# Altium footprint library PcbLib2.PcbLib: 19 footprints (part 1 of 2)
Each footprint in its own frame and in the unit in brackets; x right, y up, seen from the top. Pads: shape width x height; smd on the part's side, far side on the other; paste and mask are expansions set on the pad; w line width, h text height; cw(c..) or ccw(c..) is an arc to the next point about the centre after c.
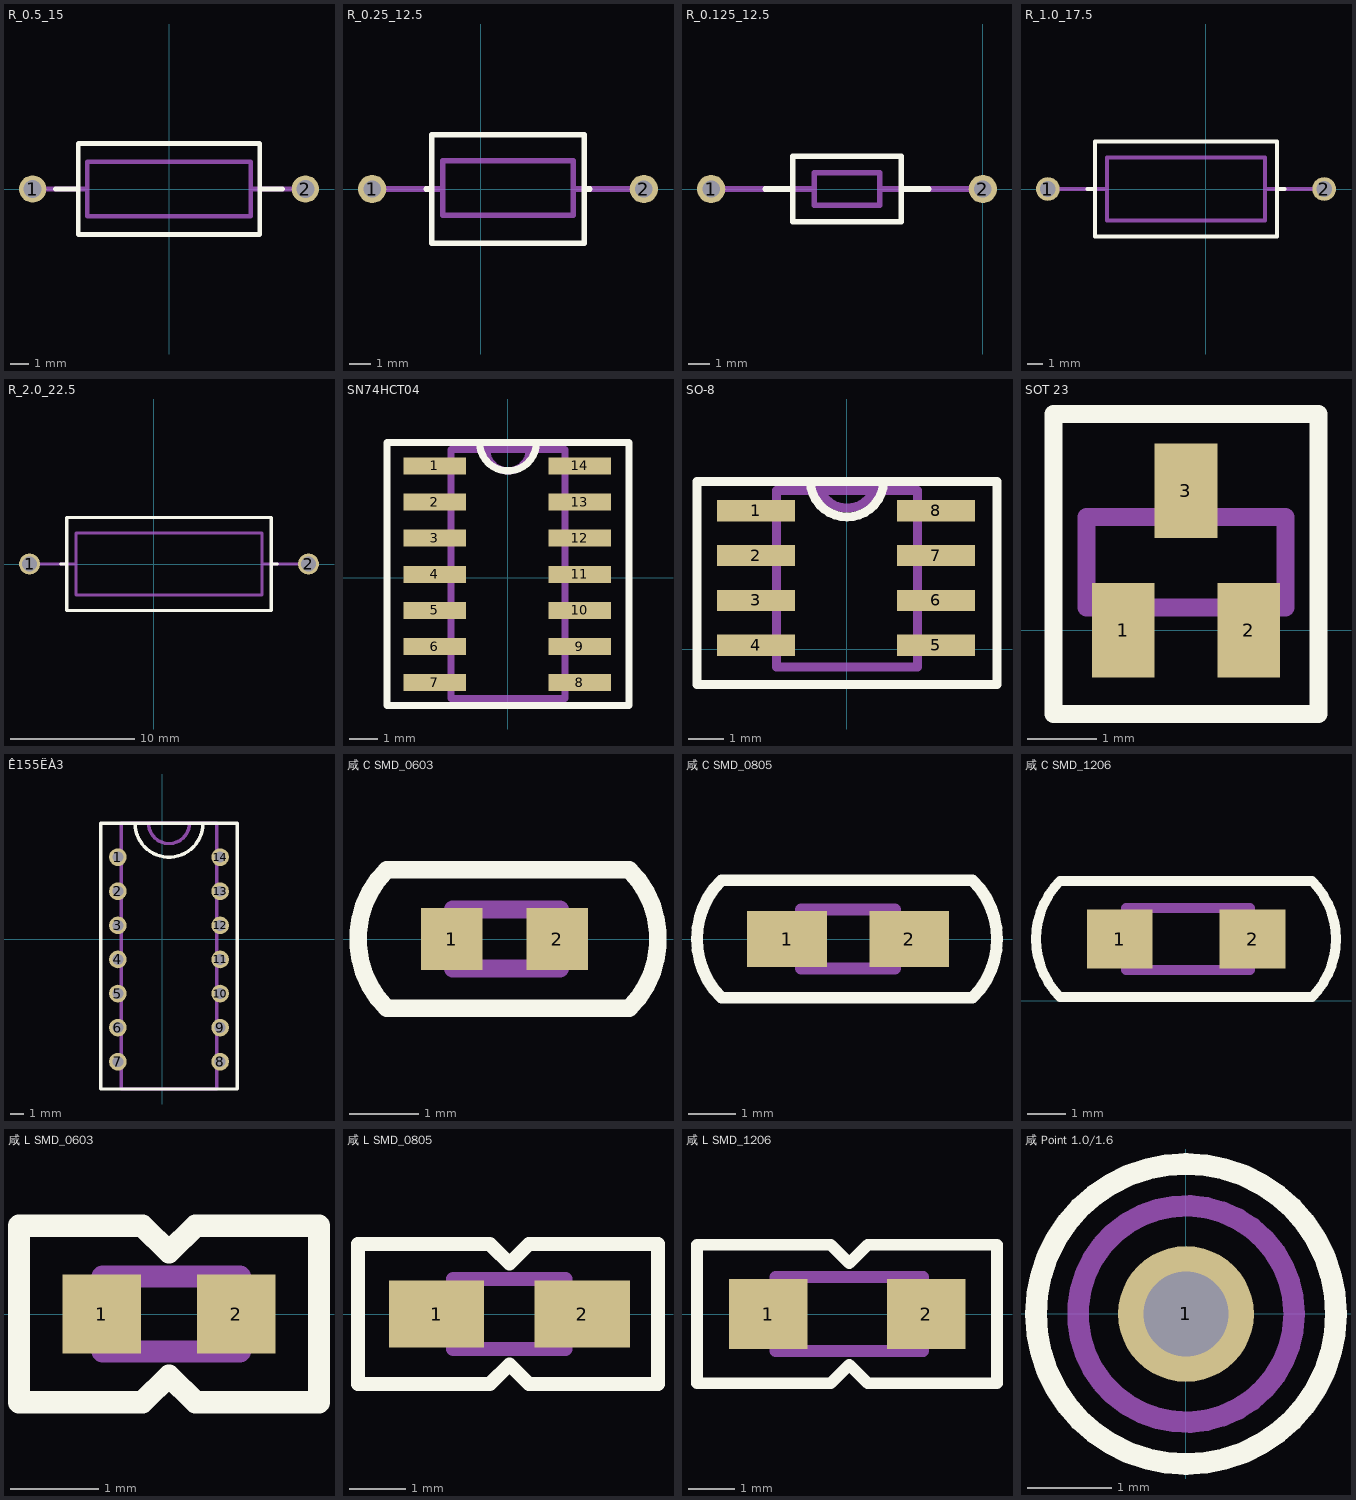
[diagram p0: the footprints below, top view; thin cyan lines are the x and y axes]

## R_0.5_15 [mm]
pads (2):
  round 1.5 hole 1: 1(-7.5,0) 2(7.5,0)
Top Overlay:
  lines w0.254: -6.25,0 -5,0 ; 5,0 6.25,0 ; -5,-2.5 -5,2.5 5,2.5 5,-2.5 -5,-2.5
Mechanical 1:
  lines w0.254: -7.5,0 -4.5,0 ; 4.5,0 7.5,0 ; -4.5,-1.5 4.5,-1.5 4.5,-1.25 4.5,1.25 4.5,1.5 -4.5,1.5 -4.5,-1.5

## R_0.25_12.5 [mm]
pads (2):
  round 1.3 hole 0.8: 1(-5,0) 2(7.5,0)
Top Overlay:
  lines w0.254: -2.5,0 -2.25,0 ; 4.75,0 5,0 ; -2.25,-2.5 4.75,-2.5 4.75,2.5 -2.25,2.5 -2.25,-2.5
Mechanical 1:
  lines w0.254: -5,0 -1.75,0 ; 4.25,0 7.5,0 ; -1.75,-1.2 -1.75,1.3 4.25,1.3 4.25,0.675 4.25,-0.575 4.25,-1.2 -1.75,-1.2

## R_0.125_12.5 [mm]
pads (2):
  round 1.3 hole 0.8: 1(-12.5,0) 2(0,0)
Top Overlay:
  lines w0.254: -10,0 -8.75,0 ; -3.75,0 -2.5,0 ; -8.75,-1.5 -3.75,-1.5 -3.75,1.5 -8.75,1.5 -8.75,-1.5
Mechanical 1:
  lines w0.254: -12.5,0 -7.75,0 ; -4.75,0 0,0 ; -7.75,-0.75 -7,-0.75 -5.5,-0.75 -4.75,-0.75 -4.75,0.75 -5.5,0.75 -7,0.75 -7.75,0.75 -7.75,-0.75

## R_1.0_17.5 [mm]
pads (2):
  round 1.5 hole 1: 1(-10,0) 2(7.5,0)
Top Overlay:
  lines w0.254: -7.5,0 -7,0 ; 4.5,0 5,0 ; -7,-3 4.5,-3 4.5,3 -7,3 -7,-3
Mechanical 1:
  lines w0.254: -10,0 -6.25,0 ; 3.75,0 7.5,0 ; -6.25,-2 3.75,-2 3.75,2 -6.25,2 -6.25,-2

## R_2.0_22.5 [mm]
pads (2):
  round 1.7 hole 1.2: 1(-10,0) 2(12.5,0)
Top Overlay:
  lines w0.254: -7.5,0 -7,0 ; 9.5,0 10,0 ; -7,-3.75 -7,3.75 9.5,3.75 9.5,-3.75 -7,-3.75
Mechanical 1:
  lines w0.254: -10,0 -6.25,0 ; 8.75,0 12.5,0 ; -6.25,-2.5 8.75,-2.5 8.75,2.5 -6.25,2.5 -6.25,-2.5

## SN74HCT04 [mm]
pads (14):
  rect 2.2x0.6 smd: 1(-2.58,3.925) 2(-2.58,2.655) 3(-2.58,1.385) 4(-2.58,0.115) 5(-2.58,-1.155) 6(-2.58,-2.425) 7(-2.58,-3.695) 8(2.52,-3.695) 9(2.52,-2.425) 10(2.52,-1.155) 11(2.52,0.115) 12(2.52,1.385) 13(2.52,2.655) 14(2.52,3.925)
Top Overlay:
  lines w0.254: -1,4.75 ccw(c0,4.75) 1,4.75 ; -4.25,-4.5 4.25,-4.5 4.25,4.75 -4.25,4.75 -4.25,-4.5
Mechanical 1:
  lines w0.254: -0.75,4.5 ccw(c0,4.5) 0.75,4.5 ; -2,-4.25 -2,4.5 2,4.5 2,-4.25 -2,-4.25

## SO-8 [mm]
pads (8):
  rect 2.2x0.6 smd: 1(-2.58,3.925) 2(-2.58,2.655) 3(-2.58,1.385) 4(-2.58,0.115) 5(2.52,0.115) 6(2.52,1.385) 7(2.52,2.655) 8(2.52,3.925)
Top Overlay:
  lines w0.254: -1.041,4.748 ccw(c0,4.792) 1.041,4.748 ; -4.25,-1 -4.25,4.75 4.25,4.75 4.25,-1 -4.25,-1
Mechanical 1:
  lines w0.254: -0.75,4.5 ccw(c0,4.812) 0.75,4.5 ; -2,-0.5 -2,4.5 2,4.5 2,-0.5 -2,-0.5

## SOT 23 [mm]
pads (3):
  rect 0.9x1.35 smd: 1(-5.4,0) 2(-3.6,0) 3(-4.5,2)
Top Overlay:
  lines w0.254: -6.4,-1.2 -2.6,-1.2 -2.6,3.1 -6.4,3.1 -6.4,-1.2
Mechanical 1:
  lines w0.254: -5.925,0.325 -3.075,0.325 -3.075,1.625 -5.925,1.625 -5.925,0.325
  lines w0.4: -5.4,-0.2 -5.4,0.2 ; -4.5,1.7 -4.5,2.1 ; -3.6,-0.2 -3.6,0.2

## Ê155ËÀ3 [mm]
pads (14):
  round 1.3 hole 0.8: 1(-3.25,6) 2(-3.25,3.5) 3(-3.25,1) 4(-3.25,-1.5) 5(-3.25,-4) 6(-3.25,-6.5) 7(-3.25,-9) 8(4.25,-9) 9(4.25,-6.5) 10(4.25,-4) 11(4.25,-1.5) 12(4.25,1) 13(4.25,3.5) 14(4.25,6)
Top Overlay:
  lines w0.254: -2,8.5 ccw(c0.5,8.5) 3,8.5 ; -4.5,-11 5.5,-11 5.5,8.5 -4.5,8.5 -4.5,-11
Mechanical 1:
  lines w0.254: -1,8.5 ccw(c0.5,8.5) 2,8.5 ; -3,-11 4,-11 4,8.5 -3,8.5 -3,-11

## 咸 C SMD_0603 [mm]
pads (2):
  rect 0.89x0.89 smd: 1(-4.56,0) 2(-3.04,0)
Top Overlay:
  lines w0.254: -5.5,-1 cw(c-4.5,0) -5.5,1 -2,1 cw(c-3,0) -2,-1 -5.5,-1
Mechanical 1:
  lines w0.254: -4.55,-0.425 -3,-0.425 -3,0.425 -4.55,0.425 -4.55,-0.425

## 咸 C SMD_0805 [mm]
pads (2):
  rect 1.7x1.2 smd: 1(-5.2,0) 2(-2.6,0)
Top Overlay:
  lines w0.254: -6.6,-1.25 cw(c-5.35,0) -6.6,1.25 -1.25,1.25 cw(c-2.5,0) -1.25,-1.25 -6.6,-1.25
Mechanical 1:
  lines w0.254: -4.9,-0.625 -2.9,-0.625 -2.9,0.625 -4.9,0.625 -4.9,-0.625

## 咸 C SMD_1206 [mm]
pads (2):
  rect 1.7x1.52 smd: 1(-6.56,1.6) 2(-3.13,1.6)
Top Overlay:
  lines w0.254: -8.1,0.1 cw(c-6.6,1.6) -8.1,3.1 -1.6,3.1 cw(c-3.1,1.6) -1.6,0.1 -8.1,0.1
Mechanical 1:
  lines w0.254: -6.4,0.8 -3.2,0.8 -3.2,2.4 -6.4,2.4 -6.4,0.8

## 咸 L SMD_0603 [mm]
pads (2):
  rect 0.89x0.89 smd: 1(-4.56,0) 2(-3.04,0)
Top Overlay:
  lines w0.254: -5.5,-1 -5.5,1 -4.1,1 -3.8,0.7 -3.5,1 -2.1,1 -2.1,-1 -3.5,-1 -3.8,-0.7 -4.1,-1 -5.5,-1
Mechanical 1:
  lines w0.254: -4.55,-0.425 -4.55,0.425 -3,0.425 -3,-0.425 -4.55,-0.425

## 咸 L SMD_0805 [mm]
pads (2):
  rect 1.7x1.2 smd: 1(-5.2,0) 2(-2.6,0)
Top Overlay:
  lines w0.254: -6.6,-1.25 -4.25,-1.25 -3.9,-0.9 -3.55,-1.25 -1.25,-1.25 -1.25,1.25 -3.525,1.25 -3.55,1.25 -3.9,0.9 -4.2,1.2 -4.25,1.25 -6.6,1.25 -6.6,-1.25
Mechanical 1:
  lines w0.254: -4.9,-0.625 -2.9,-0.625 -2.9,0.625 -4.9,0.625 -4.9,-0.625

## 咸 L SMD_1206 [mm]
pads (2):
  rect 1.7x1.52 smd: 1(-6.86,0) 2(-3.43,0)
Top Overlay:
  lines w0.254: -8.4,-1.5 -8.4,1.5 -6.775,1.5 -5.5,1.5 -5.2,1.2 -5.1,1.1 -4.7,1.5 -3.456,1.5 -1.9,1.5 -1.9,-1.5 -3.525,-1.5 -4.7,-1.5 -5.1,-1.1 -5.5,-1.5 -8.4,-1.5
Mechanical 1:
  lines w0.254: -6.7,-0.8 -3.5,-0.8 -3.5,0.8 -6.7,0.8 -6.7,-0.8

## 咸 Point 1.0/1.6 [mm]
pads (1):
  round 1.6 hole 1: 1(0,0)
Top Overlay:
  circle w0.254: c0,0 r1.768
Mechanical 1:
  circle w0.254: c0,0 r1.275